# EAGLE library part ESD5384NCTBG (library SamacSys_Parts)
Source: Datasheet <https://componentsearchengine.com/Datasheets/1/ESD5384NCTBG.pdf>
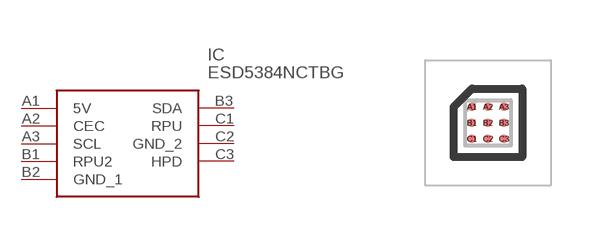
[diagram p0: symbol with the pads of BGA9C40P3X3_114X114X63; footprint BGA9C40P3X3_114X114X63]

Designator prefix IC

## ESD5384NCTBG (HEIGHT: 0.63mm; MANUFACTURER_NAME: ON Semiconductor; MANUFACTURER_PART_NUMBER: ESD5384NCTBG; MOUSER_PART_NUMBER: 863-ESD5384NCTBG)  [BGA9C40P3X3_114X114X63]
A1  5V
A2  CEC
A3  SCL
B1  RPU2
B2  GND_1  pwr
B3  SDA
C1  RPU
C2  GND_2  pwr
C3  HPD

## Footprint BGA9C40P3X3_114X114X63 (pad centres in mm)
WLCSP9 CASE 567CX-01
smd 0.212 x 0.212: A1 -0.4,0.4; A2 0,0.4; A3 0.4,0.4; B1 -0.4,0; B2 0,0; B3 0.4,0; C1 -0.4,-0.4; C2 0,-0.4; C3 0.4,-0.4